# EAGLE library part MCP4013 (library Modulo)
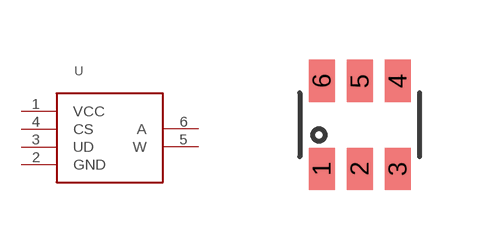
[diagram p18: symbol with the pads of SOT-23-6; footprint SOT-23-6]

Designator prefix U

## MCP4013 (PARTNUM: MCP4013T-503E/CH)  [SOT-23-6]
1  VCC
2  GND
3  UD
4  CS
5  W
6  A

## Footprint SOT-23-6 (pad centres in mm)
smd 0.65 x 1.06: 1 -0.95,-1.1; 2 0,-1.1; 3 0.95,-1.1; 4 0.95,1.1; 5 0,1.1; 6 -0.95,1.1